# EAGLE library part TLC2272ACPE4 (library other)
TLC2272ACPE4, Dual Operational Amplifier 2.18MHz CMOS, Rail-Rail 5 to 15V, 8-Pin PDIP Source: Datasheet <http://www.ti.com/lit/ds/symlink/tlc2272a.pdf>
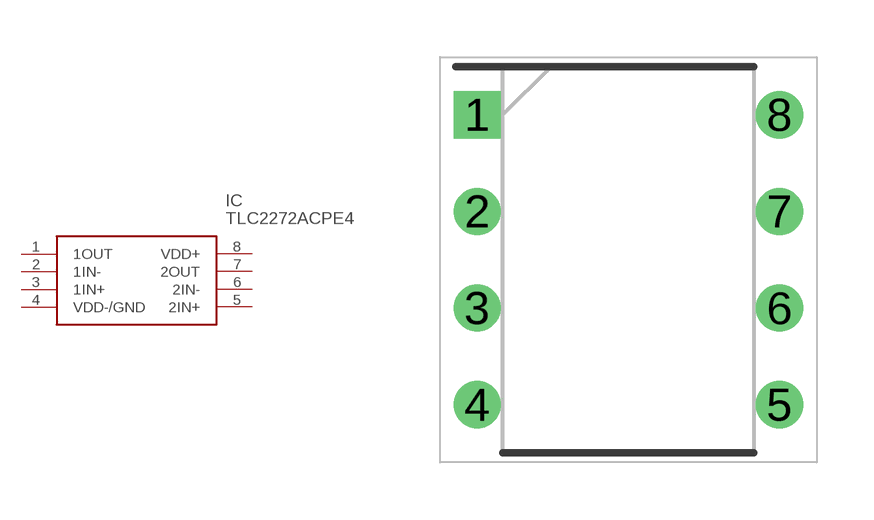
[diagram p4: symbol with the pads of DIP794W53P254L959H508Q8N; footprint DIP794W53P254L959H508Q8N]

Designator prefix IC

## TLC2272ACPE4 (ARROW_PART_NUMBER: TLC2272ACPE4; ARROW_PRICE/STOCK: http://uk.rs-online.com/web/p/products/7092132P; DESCRIPTION: TLC2272ACPE4, Dual Operational Amplifier 2.18MHz CMOS, Rail-Rail 5 to 15V, 8-Pin PDIP; HEIGHT: 5.08mm; MANUFACTURER_NAME: Texas Instruments; MANUFACTURER_PART_NUMBER: TLC2272ACPE4; RS_PART_NUMBER: 7092132P; RS_PRICE/STOCK: http://uk.rs-online.com/web/p/products/7092132P)  [DIP794W53P254L959H508Q8N]
1  1OUT  out
2  1IN-  in
3  1IN+  in
4  VDD-/GND  pwr
5  2IN+  in
6  2IN-  in
7  2OUT  out
8  VDD+  pwr

## Footprint DIP794W53P254L959H508Q8N (pad centres in mm)
P (R-PDIP-T8)
drill 0.73 pad 1.13 square: 1 -3.97,3.81
drill 0.73 pad 1.13: 2 -3.97,1.27; 3 -3.97,-1.27; 4 -3.97,-3.81; 5 3.97,-3.81; 6 3.97,-1.27; 7 3.97,1.27; 8 3.97,3.81